# EAGLE library part SPARKFUN-CONNECTORS_PETERMICROSDEBAY_USD-SOCKET (library SmoothieBrainz - next round)
microSD Socket Push-push type uSD socket. Schematic element and footprint production proven. Spark Fun Electronics SKU : PRT-00127. tDoc lines correctly indicate media card edge positions when inserting (unlocked, locked, depressed).
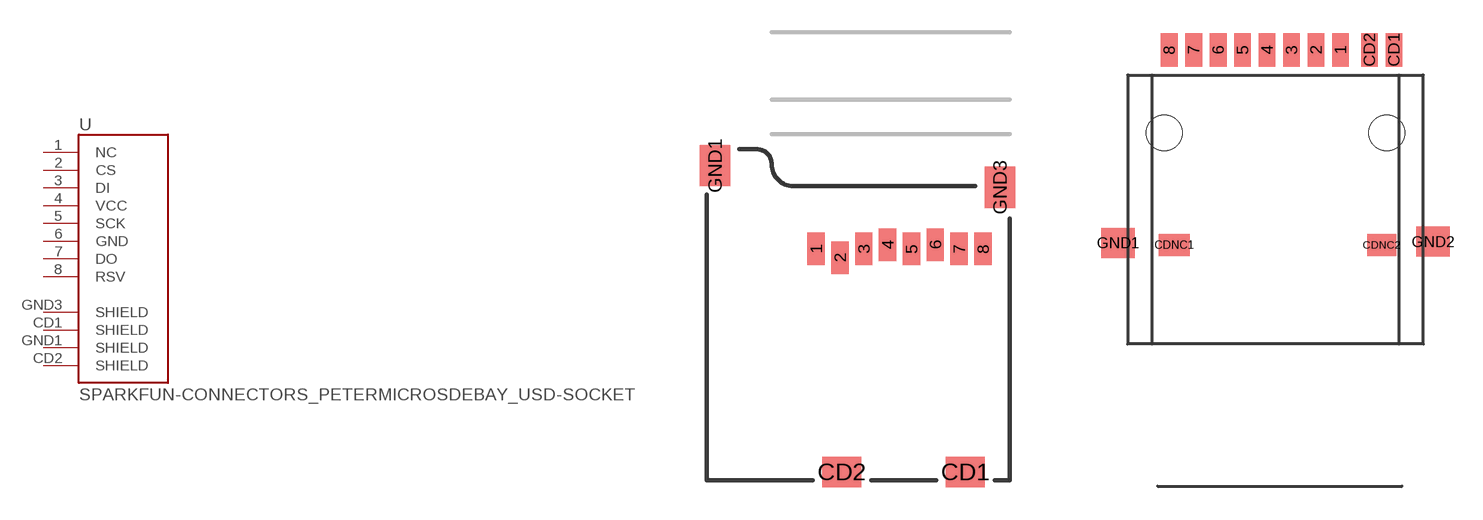
[diagram p3: symbol with the pads of SPARKFUN-CONNECTORS_PETERMICROSDEBAY_MICRO-SD-SOCKET-PP; footprints SPARKFUN-CONNECTORS_PETERMICROSDEBAY_MICRO-SD-SOCKET-PP, SPARKFUN-CONNECTORS_PETERMICROSDEBAY_USD-SOCKET-PP]

Designator prefix U

## SPARKFUN-CONNECTORS_PETERMICROSDEBAY_USD-SOCKETNEW  [SPARKFUN-CONNECTORS_PETERMICROSDEBAY_MICRO-SD-SOCKET-PP]
1  NC
2  CS
3  DI
4  VCC
5  SCK
6  GND
7  DO
8  RSV
CD1  SHIELD
CD2  SHIELD
GND1  SHIELD
GND3  SHIELD

## SPARKFUN-CONNECTORS_PETERMICROSDEBAY_USD-SOCKETUSD  [SPARKFUN-CONNECTORS_PETERMICROSDEBAY_USD-SOCKET-PP]
1  NC
2  CS
3  DI
4  VCC
5  SCK
6  GND
7  DO
8  RSV
CDNC1  SHIELD
CDNC2  SHIELD
GND1  SHIELD
GND2  SHIELD

## Footprint SPARKFUN-CONNECTORS_PETERMICROSDEBAY_MICRO-SD-SOCKET-PP (pad centres in mm)
smd 0.8 x 1.5: 1 -8.94,10.7; 2 -7.84,10.3; 3 -6.74,10.7; 4 -5.64,10.9; 5 -4.54,10.7; 6 -3.44,10.9; 7 -2.34,10.7; 8 -1.24,10.7
smd 1.8 x 1.4: CD1 -2.05,0.4; CD2 -7.75,0.4
smd 1.4 x 1.9: GND1 -13.6,14.55; GND3 -0.45,13.55

## Footprint SPARKFUN-CONNECTORS_PETERMICROSDEBAY_USD-SOCKET-PP (pad centres in mm)
OLD Production Socket. DO NOT USE for production boards.
smd 0.75 x 1.5: 1 2.925,1.125; 2 1.825,1.125; 3 0.725,1.125; 4 -0.375,1.125; 5 -1.475,1.125; 6 -2.575,1.125; 7 -3.675,1.125; 8 -4.775,1.125; CD1 5.325,1.125; CD2 4.225,1.125
smd 1.4 x 1: CDNC1 -4.55,-7.65
smd 1.3 x 1: CDNC2 4.775,-7.65
smd 1.5 x 1.35: GND1 -7.075,-7.55; GND2 7.075,-7.5
hole 1.6 at -5,-2.6
hole 1.6 at 5,-2.6